# Altium footprint library Comp_PCB.PcbLib: 22 footprints (part 2 of 2)
Each footprint in its own frame and in the unit in brackets; x right, y up, seen from the top. Pads: shape width x height; smd on the part's side, far side on the other; paste and mask are expansions set on the pad; w line width, h text height; cw(c..) or ccw(c..) is an arc to the next point about the centre after c.
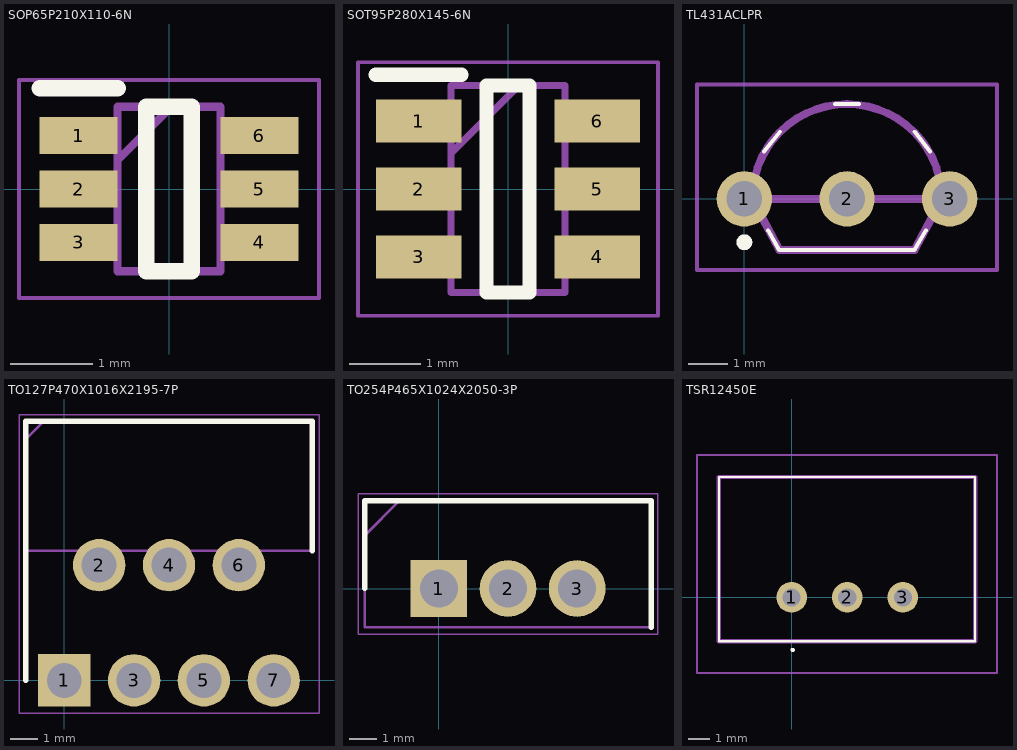
[diagram p1: the footprints below, top view; thin cyan lines are the x and y axes]

## SOP65P210X110-6N [mm]
pads (6):
  rect 0.95x0.45 smd: 1(-1.1,0.65) 2(-1.1,0) 3(-1.1,-0.65) 4(1.1,-0.65) 5(1.1,0) 6(1.1,0.65)
Top Overlay:
  lines w0.2: -1.575,1.225 -0.625,1.225 ; -0.275,-1 -0.275,1 0.275,1 0.275,-1 -0.275,-1
Mechanical 13:
  lines w0.1: -0.625,0.35 0.025,1 ; -0.625,-1 -0.625,1 0.625,1 0.625,-1 -0.625,-1
Mechanical 15:
  lines w0.05: -1.825,-1.325 -1.825,1.325 1.825,1.325 1.825,-1.325 -1.825,-1.325
3D body "TL431AIDCKR.stp": height 1, standoff 0, extent -1.05,-0.97 1.05,1.03

## SOT95P280X145-6N [mm]
pads (6):
  rect 1.2x0.6 smd: 1(-1.25,0.95) 2(-1.25,0) 3(-1.25,-0.95) 4(1.25,-0.95) 5(1.25,0) 6(1.25,0.95)
Top Overlay:
  lines w0.2: -1.85,1.6 -0.65,1.6 ; -0.3,-1.45 -0.3,1.45 0.3,1.45 0.3,-1.45 -0.3,-1.45
Mechanical 13:
  lines w0.1: -0.8,0.5 0.15,1.45 ; -0.8,-1.45 -0.8,1.45 0.8,1.45 0.8,-1.45 -0.8,-1.45
Mechanical 15:
  lines w0.05: -2.1,-1.775 -2.1,1.775 2.1,1.775 2.1,-1.775 -2.1,-1.775
3D body "INA181A4QDBVRQ1.stp": height 1.2, standoff 0, extent -1.4,-1.45 1.4,1.45

## TL431ACLPR [mm]
pads (3):
  round 1.4 hole 0.9: 1(0,0) 2(2.6,0) 3(5.2,0)
Top Overlay:
  lines w0.1: 0.5,1.2 0.9,1.7 ; 0.6,-0.8 0.885,-1.3 4.3,-1.3 4.6,-0.8 ; 2.3,2.4 2.9,2.4 ; 4.315,1.7 4.7,1.2
  lines w0.2: -0.1,-1.1 ccw(c0,-1.1) 0.1,-1.1 ccw(c0,-1.1) -0.1,-1.1
Mechanical 13:
  lines w0.2: 0.2,0 cw(c2.6,0) 5,0 ; 0.2,0 5,0 ; 0.2,0 0.885,-1.3 4.315,-1.3 5,0
Mechanical 15:
  lines w0.1: -1.2,-1.8 6.4,-1.8 ; -1.2,-1.8 -1.2,2.9 ; -1.2,-1.8 6.4,-1.8 ; -1.2,-1.8 -1.2,2.9 ; -1.2,2.9 6.4,2.9 ; -1.2,2.9 6.4,2.9 ; 6.4,-1.8 6.4,2.9 ; 6.4,-1.8 6.4,2.9
3D body "TL431ACLPR.stp": height 5.35, standoff -12.69, extent 0.127,-1.46 5.331,2.73

## TO127P470X1016X2195-7P [mm]
pads (7):
  rect 1.905x1.905 hole 1.27: 1(0,0)
  round 1.905 hole 1.27: 2(1.27,4.19) 3(2.54,0) 4(3.81,4.19) 5(5.08,0) 6(6.35,4.19) 7(7.62,0)
Top Overlay:
  lines w0.2: -1.395,0 -1.395,9.42 9.015,9.42 9.015,4.72
Mechanical 13:
  lines w0.1: -1.395,8.785 -0.76,9.42 ; -1.395,4.72 -1.395,9.42 9.015,9.42 9.015,4.72 -1.395,4.72
Mechanical 15:
  lines w0.05: -1.645,-1.202 -1.645,9.67 9.265,9.67 9.265,-1.202 -1.645,-1.202

## TO254P465X1024X2050-3P [mm]
pads (3):
  rect 2.085x2.085 hole 1.39: 1(0,0)
  round 2.085 hole 1.39: 2(2.54,0) 3(5.08,0)
Top Overlay:
  lines w0.2: -2.72,0 -2.72,3.225 7.8,3.225 7.8,-1.425
Mechanical 13:
  lines w0.1: -2.72,1.955 -1.45,3.225 ; -2.72,-1.425 7.8,-1.425 7.8,3.225 -2.72,3.225 -2.72,-1.425
Mechanical 15:
  lines w0.05: -2.97,-1.675 8.05,-1.675 8.05,3.475 -2.97,3.475 -2.97,-1.675
3D body "IRL530.stp": height 18.77, standoff -17.37, extent -2.58,-1.425 7.66,3.225

## TSR12450E [mm]
pads (3):
  round 1.4 hole 0.83: 1(0,0) 2(2.54,0) 3(5.08,0)
Top Overlay:
  lines w0.1: -3.32,-2 -3.32,5.5 8.38,5.5 8.38,-2 -3.32,-2 ; 0,-2.4 cw(c0.05,-2.4) 0.1,-2.4 cw(c0.05,-2.4) 0,-2.4
Mechanical 13:
  lines w0.2: -3.32,-2 -3.32,5.5 8.38,5.5 8.38,-2 -3.32,-2
Mechanical 15:
  lines w0.1: -4.32,-3.45 -4.32,6.5 9.38,6.5 9.38,-3.45 -4.32,-3.45
3D body "TSR_1-2450E.stp": height 9.88, standoff -4.38, extent -3.692,-1.783 7.988,5.717